# EAGLE library part AS3935 (library mike-temp)
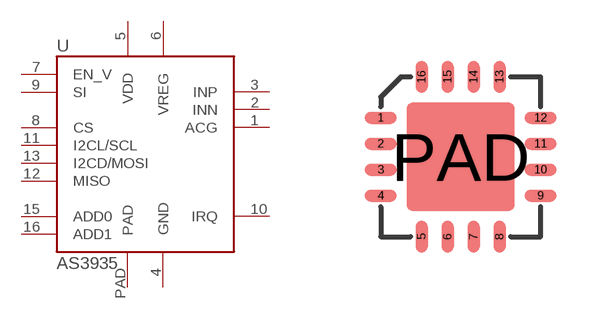
[diagram p22: symbol with the pads of MLPQ16+PAD; footprint MLPQ16+PAD]

Designator prefix U

## AS3935  [MLPQ16+PAD]
1  ACG
2  INN
3  INP
4  GND
5  VDD
6  VREG
7  EN_V
8  CS
9  SI
10  IRQ
11  I2CL/SCL
12  MISO
13  I2CD/MOSI
15  ADD0
16  ADD1
PAD  PAD

## Footprint MLPQ16+PAD (pad centres in mm)
smd 0.8 x 0.3: 1 -2,0.975; 2 -2,0.325; 3 -2,-0.325; 4 -2,-0.975; 9 2,-0.975; 10 2,-0.325; 11 2,0.325; 12 2,0.975
smd 0.3 x 0.8: 5 -0.975,-2; 6 -0.325,-2; 7 0.325,-2; 8 0.975,-2; 13 0.975,2; 14 0.325,2; 15 -0.325,2; 16 -0.975,2
smd 2.7 x 2.7: PAD 0,0